# Altium schematic symbol library Cesium_3.SchLib: 18 symbols
Pins are listed as number, name and electrical type; pins without a type are passive.

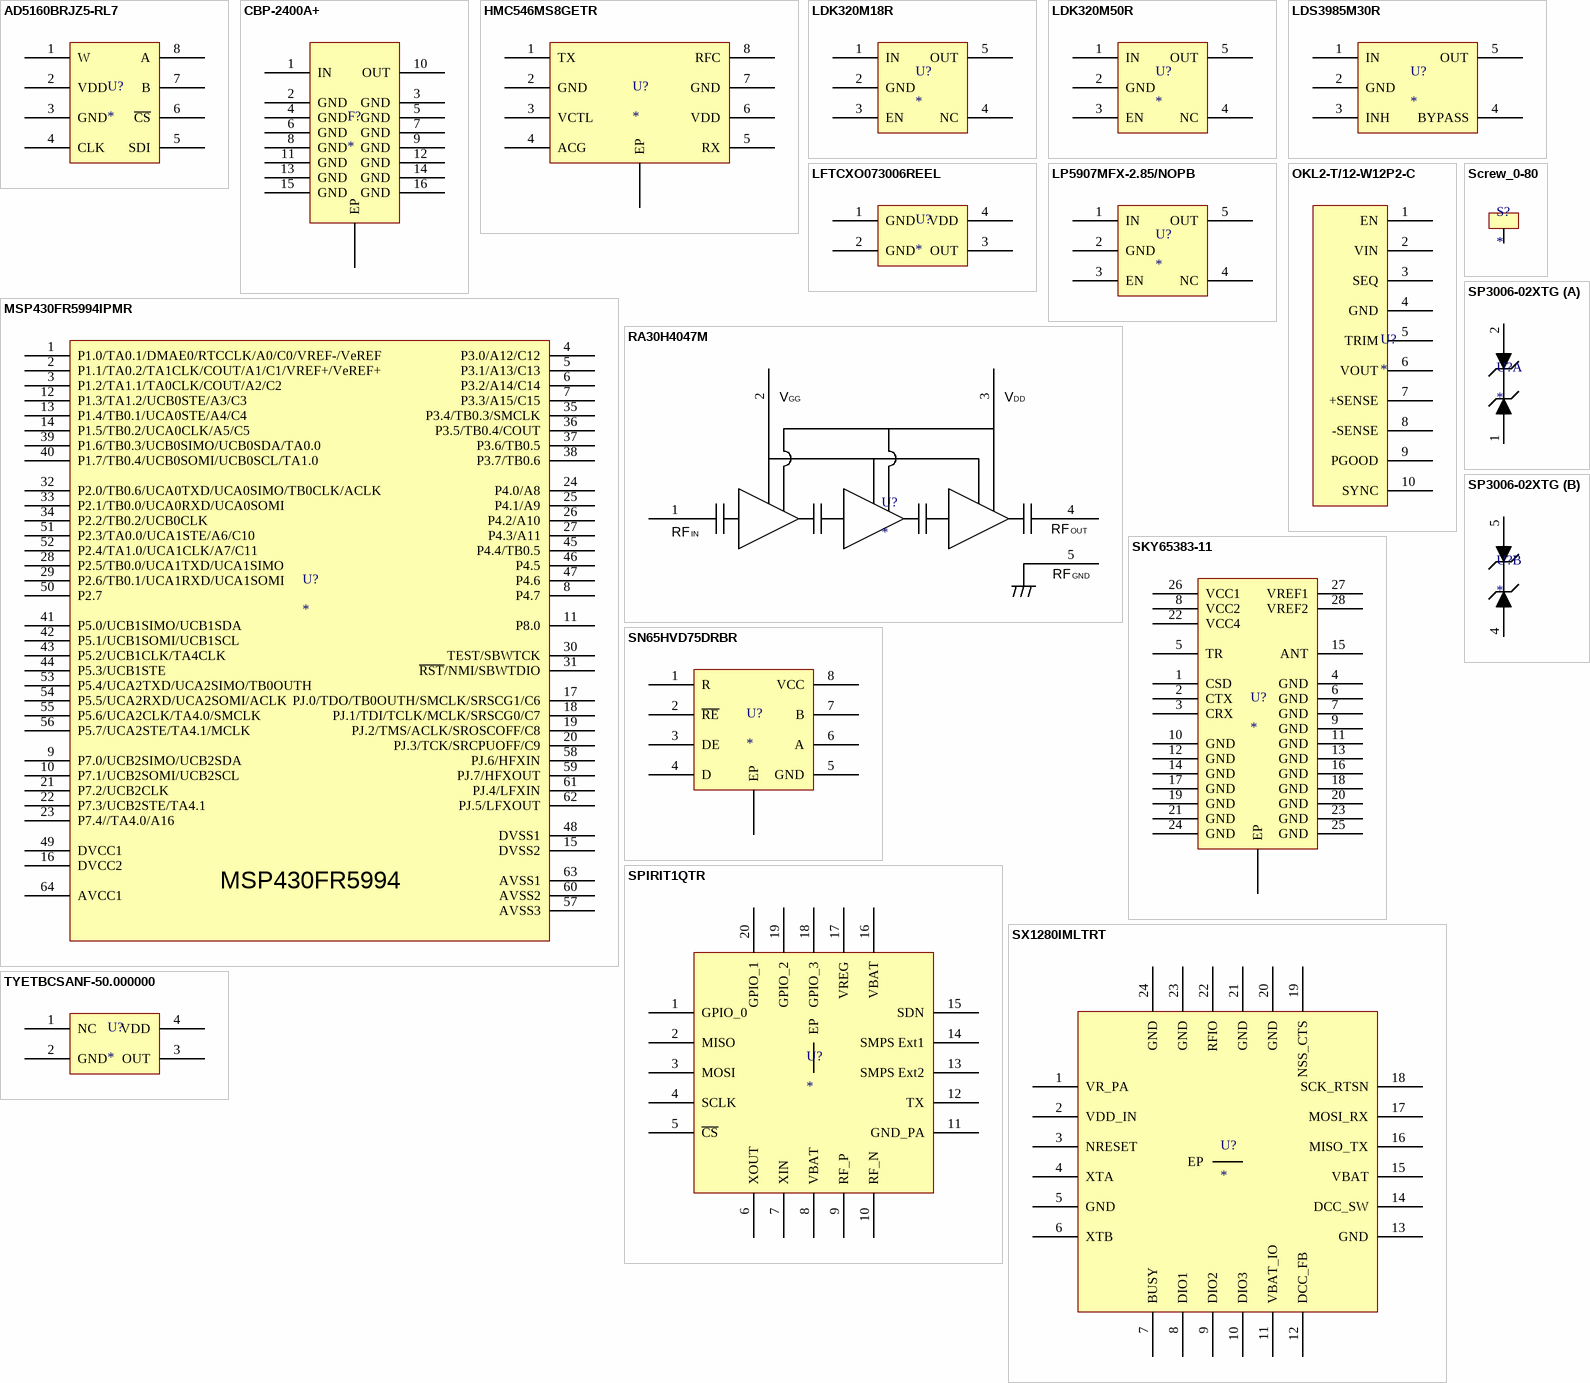
[diagram p0: symbols AD5160BRJZ5-RL7 to TYETBCSANF-50.000000]

## AD5160BRJZ5-RL7
designator U?
Digital Potentiometer 5k Ohm 1 Circuit 256 Taps SPI Interface SOT-23-8
footprint TSOP65P280X130-8N (TSOP, 8-Leads, Body 2.90x1.60mm, Pitch 0.65mm, IPC Medium Density)
pins: 1 W, 2 VDD, 3 GND, 4 CLK, 5 SDI, 6 ~{CS}, 7 B, 8 A

## CBP-2400A+
designator F?
CBP-2400A+ is a ceramic-coaxial-resonator based bandpass filter in a shielded package fabricated using SMT / technology. This filter offers outstanding close-in rejection, low insertion loss and high power handling for use in / mobile satellite, ISM and amateur radio
footprint CBP-2400A+
pins: 1 IN, 2 GND, 3 GND, 4 GND, 5 GND, 6 GND, 7 GND, 8 GND, 9 GND, 10 OUT, 11 GND, 12 GND, 13 GND, 14 GND, 15 GND, 16 GND, 17 EP

## HMC546MS8GETR
designator U?
RF Switch IC Cellular SPDT 2.2GHz 50 Ohm 8-MSOP
footprint TSOP65P490X110_HS-9N (TSOP, 8-Leads, Body 3.00x3.00mm, Pitch 0.65mm, Thermal Pad 2.41x1.78mm, IPC Medium Density)
pins: 1 TX, 2 GND, 3 VCTL, 4 ACG, 5 RX, 6 VDD, 7 GND, 8 RFC, 9 EP

## LDK320M18R
designator U?
Linear Voltage Regulator IC Positive Fixed 1 Output 1.8V 200mA SOT-23-5
footprint SOT95P280X145-5N (SOT23, 5-Leads, Body 2.95x2.80mm, Pitch 0.95mm, IPC Medium Density)
pins: 1 IN, 2 GND, 3 EN, 4 NC, 5 OUT

## LDK320M50R
designator U?
Linear Voltage Regulator IC Positive Fixed 1 Output 5V 200mA SOT-23-5
footprint SOT95P280X145-5N (SOT23, 5-Leads, Body 2.95x2.80mm, Pitch 0.95mm, IPC Medium Density)
pins: 1 IN, 2 GND, 3 EN, 4 NC, 5 OUT

## LDS3985M30R
designator U?
Linear Voltage Regulator IC Positive Fixed 1 Output 3V 300mA SOT-23-5
footprint SOT95P280X145-5N (SOT23, 5-Leads, Body 2.95x2.80mm, Pitch 0.95mm, IPC Medium Density)
pins: 1 IN, 2 GND, 3 INH, 4 BYPASS, 5 OUT

## LFTCXO073006REEL
designator U?
50MHz TCXO Clipped Sine Wave Oscillator 2.8 V ~ 3.3 V 4-SMD, No Lead
footprint LFTCXO073006REEL
pins: 1 GND, 2 GND, 3 OUT, 4 VDD

## LP5907MFX-2.85/NOPB
designator U?
Linear Voltage Regulator IC 1 Output 250mA SOT-23-5
footprint SOT95P280X145-5N (SOT23, 5-Leads, Body 2.95x2.80mm, Pitch 0.95mm, IPC Medium Density)
pins: 1 IN, 2 GND, 3 EN, 4 NC, 5 OUT

## MSP430FR5994IPMR
designator U?
CPUXV2 MSP430™ FRAM Microcontroller IC 16-Bit 16MHz 256KB (256K x 8) FRAM 64-LQFP (10x10)
footprint S-PQFP-G64 (TSQFP, 64-Leads, Body 10.00x10.00mm, Pitch 0.50mm, IPC Medium Density)
pins: 1 P1.0/TA0.1/DMAE0/RTCCLK/A0/C0/VREF-/VeREF, 2 P1.1/TA0.2/TA1CLK/COUT/A1/C1/VREF+/VeREF+, 3 P1.2/TA1.1/TA0CLK/COUT/A2/C2, 4 P3.0/A12/C12, 5 P3.1/A13/C13, 6 P3.2/A14/C14, 7 P3.3/A15/C15, 8 P4.7, 9 P7.0/UCB2SIMO/UCB2SDA, 10 P7.1/UCB2SOMI/UCB2SCL, 11 P8.0, 12 P1.3/TA1.2/UCB0STE/A3/C3, 13 P1.4/TB0.1/UCA0STE/A4/C4, 14 P1.5/TB0.2/UCA0CLK/A5/C5, 15 DVSS2, 16 DVCC2, 17 PJ.0/TDO/TB0OUTH/SMCLK/SRSCG1/C6, 18 PJ.1/TDI/TCLK/MCLK/SRSCG0/C7, 19 PJ.2/TMS/ACLK/SROSCOFF/C8, 20 PJ.3/TCK/SRCPUOFF/C9, 21 P7.2/UCB2CLK, 22 P7.3/UCB2STE/TA4.1, 23 P7.4//TA4.0/A16, 24 P4.0/A8, 25 P4.1/A9, 26 P4.2/A10, 27 P4.3/A11, 28 P2.5/TB0.0/UCA1TXD/UCA1SIMO, 29 P2.6/TB0.1/UCA1RXD/UCA1SOMI, 30 TEST/SBWTCK, 31 ~{RST}/NMI/SBWTDIO, 32 P2.0/TB0.6/UCA0TXD/UCA0SIMO/TB0CLK/ACLK, 33 P2.1/TB0.0/UCA0RXD/UCA0SOMI, 34 P2.2/TB0.2/UCB0CLK, 35 P3.4/TB0.3/SMCLK, 36 P3.5/TB0.4/COUT, 37 P3.6/TB0.5, 38 P3.7/TB0.6, 39 P1.6/TB0.3/UCB0SIMO/UCB0SDA/TA0.0, 40 P1.7/TB0.4/UCB0SOMI/UCB0SCL/TA1.0, 41 P5.0/UCB1SIMO/UCB1SDA, 42 P5.1/UCB1SOMI/UCB1SCL, 43 P5.2/UCB1CLK/TA4CLK, 44 P5.3/UCB1STE, 45 P4.4/TB0.5, 46 P4.5, 47 P4.6, 48 DVSS1, 49 DVCC1, 50 P2.7, 51 P2.3/TA0.0/UCA1STE/A6/C10, 52 P2.4/TA1.0/UCA1CLK/A7/C11, 53 P5.4/UCA2TXD/UCA2SIMO/TB0OUTH, 54 P5.5/UCA2RXD/UCA2SOMI/ACLK, 55 P5.6/UCA2CLK/TA4.0/SMCLK, 56 P5.7/UCA2STE/TA4.1/MCLK, 57 AVSS3, 58 PJ.6/HFXIN, 59 PJ.7/HFXOUT, 60 AVSS2, 61 PJ.4/LFXIN, 62 PJ.5/LFXOUT, 63 AVSS1, 64 AVCC1
text: MSP430FR5994

## OKL2-T/12-W12P2-C
designator U?
Non-Isolated PoL Module DC DC Converter 1 Output 0.69 ~ 5.5 V 12A 4.5V - 14V Input
footprint OKL2-T/12-W12P2-C
pins: 1 EN, 2 VIN, 3 SEQ, 4 GND, 5 TRIM, 6 VOUT, 7 +SENSE, 8 -SENSE, 9 PGOOD, 10 SYNC

## RA30H4047M
designator U?
The RA30H4047M is a 30-watt RF MOSFET Amplifier / Module for 12.5-volt mobile radios that operate in the 400- to / 470-MHz range.
footprint RA30H4047M
footprint RA30H4047M_BRD_MNT
pins: 1 PIN, 2 VGG, 3 VDD, 4 POUT, 5 POUT
text: V; GG; DD; OUT; RF; IN; GND

## Screw_0-80
designator S?
footprint Screw_0-80
pins: 1

## SKY65383-11
designator U?
RF Front End 2.4GHz ~ 2.483 GHz ISM 28-MCM (6x6)
footprint PQFN70P600X600X85_HS-29N (PQFN, 28-Leads, Body 6.00x6.00mm, Pitch 0.70mm, Thermal Pad 3.88x3.88mm, IPC Medium Density)
pins: 1 CSD, 2 CTX, 3 CRX, 4 GND, 5 TR, 6 GND, 7 GND, 8 VCC2, 9 GND, 10 GND, 11 GND, 12 GND, 13 GND, 14 GND, 15 ANT, 16 GND, 17 GND, 18 GND, 19 GND, 20 GND, 21 GND, 22 VCC4, 23 GND, 24 GND, 25 GND, 26 VCC1, 27 VREF1, 28 VREF2, 29 EP

## SN65HVD75DRBR
designator U?
footprint SON65P300X100_HS-9N (SON, 8-Leads, Body 3.00x3.00mm, Pitch 0.65mm, Thermal Pad 2.40x1.49mm, IPC Medium Density)
pins: 1 R, 2 ~{RE}, 3 DE, 4 D, 5 GND, 6 A, 7 B, 8 VCC, 9 EP

## SP3006-02XTG
designator U?
TVS DIODE 6V 15V SOT563
footprint SOT50P160X60-6L (SOT23, 6-Leads, Body 1.60x1.60mm, Pitch 0.50mm, IPC High Density)
part A pins: 1, 2
part B pins: 4, 5

## SPIRIT1QTR
designator U?
IC RF TxRx Only General ISM < 1GHz 150MHz ~ 174MHz, 300MHz ~ 348MHz, 387MHz ~ 470MHz, 779MHz ~ 956MHz 20-VFQFN Exposed Pad
footprint QFN50P400X400X100_HS-21N (QFN, 20-Leads, Body 4.00x4.00mm, Pitch 0.50mm, Thermal Pad 2.60x2.60mm, IPC Medium Density)
pins: 1 GPIO_0, 2 MISO, 3 MOSI, 4 SCLK, 5 ~{CS}, 6 XOUT, 7 XIN, 8 VBAT, 9 RF_P, 10 RF_N, 11 GND_PA, 12 TX, 13 SMPS Ext2, 14 SMPS Ext1, 15 SDN, 16 VBAT, 17 VREG, 18 GPIO_3, 19 GPIO_2, 20 GPIO_1, 21 EP

## SX1280IMLTRT
designator U?
IC RF TxRx Only 802.15.4 LoRa™ 2.4GHz 24-WFQFN Exposed Pad
footprint QFN50P400X400X80_HS-25N (QFN, 24-Leads, Body 4.00x4.00mm, Pitch 0.50mm, Thermal Pad 2.60x2.60mm, IPC Medium Density)
pins: 1 VR_PA, 2 VDD_IN, 3 NRESET, 4 XTA, 5 GND, 6 XTB, 7 BUSY, 8 DIO1, 9 DIO2, 10 DIO3, 11 VBAT_IO, 12 DCC_FB, 13 GND, 14 DCC_SW, 15 VBAT, 16 MISO_TX, 17 MOSI_RX, 18 SCK_RTSN, 19 NSS_CTS, 20 GND, 21 GND, 22 RFIO, 23 GND, 24 GND, 25 EP

## TYETBCSANF-50.000000
designator U?
50MHz TCXO Clipped Sine Wave Oscillator 2.8 V ~ 3.3 V 4-SMD, No Lead
footprint TYETBCSANF
pins: 1 NC, 2 GND, 3 OUT, 4 VDD